# EAGLE library part LM2734 (library RoboJackets-ICs)
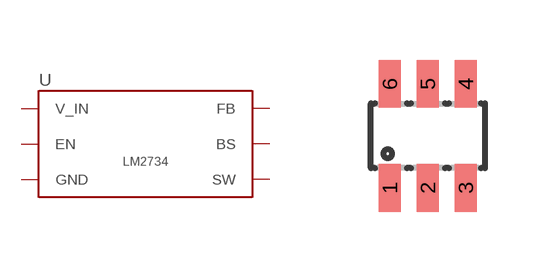
[diagram p0: symbol with the pads of SOT-23-6; footprint SOT-23-6]

Designator prefix U

## LM2734MKX/NOPB, LM2734XMKX/NOPB (VOLTAGE: 5.0V)  [SOT-23-6]
1  BS
2  GND  oc
3  FB
4  EN  in
5  V_IN  pwr
6  SW

## Footprint SOT-23-6 (pad centres in mm)
Small Outline Transistor
smd 0.55 x 1.2: 1 -0.95,-1.3; 2 0,-1.3; 3 0.95,-1.3; 4 0.95,1.3; 5 0,1.3; 6 -0.95,1.3